# Altium schematic symbol library FTSH-105-01-F-D-RA.SchLib: 1 symbol
Pins are listed as number, name and electrical type; pins without a type are passive.

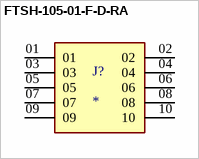
[diagram p0: symbol FTSH-105-01-F-D-RA]

## FTSH-105-01-F-D-RA
designator J?
MP: FTSH-105-01-F-D-RA; MF: {'manufacturer': u'Samtec'}; Availability: Unavailable; Price: None; Value: *; Package: None
footprint SAMTEC_FTSH-105-01-F-D-RA
pins: 01, 02, 03, 04, 05, 06, 07, 08, 09, 10